# Altium schematic symbol library BB-SUPPORT-P1.SchLib: 1 symbol
Pins are listed as number, name and electrical type; pins without a type are passive.

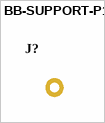
[diagram p0: symbol BB-SUPPORT-P1]

## BB-SUPPORT-P1
designator J?  (value not drawn)
BB Mechanical Support Header, Vertical, Male, 0.1", 2.54mm, P01
pins: 1